# Altium footprint library IMR_LIB_PCB.PcbLib: 119 footprints (part 5 of 8)
Each footprint in its own frame and in the unit in brackets; x right, y up, seen from the top. Pads: shape width x height; smd on the part's side, far side on the other; paste and mask are expansions set on the pad; w line width, h text height; cw(c..) or ccw(c..) is an arc to the next point about the centre after c.
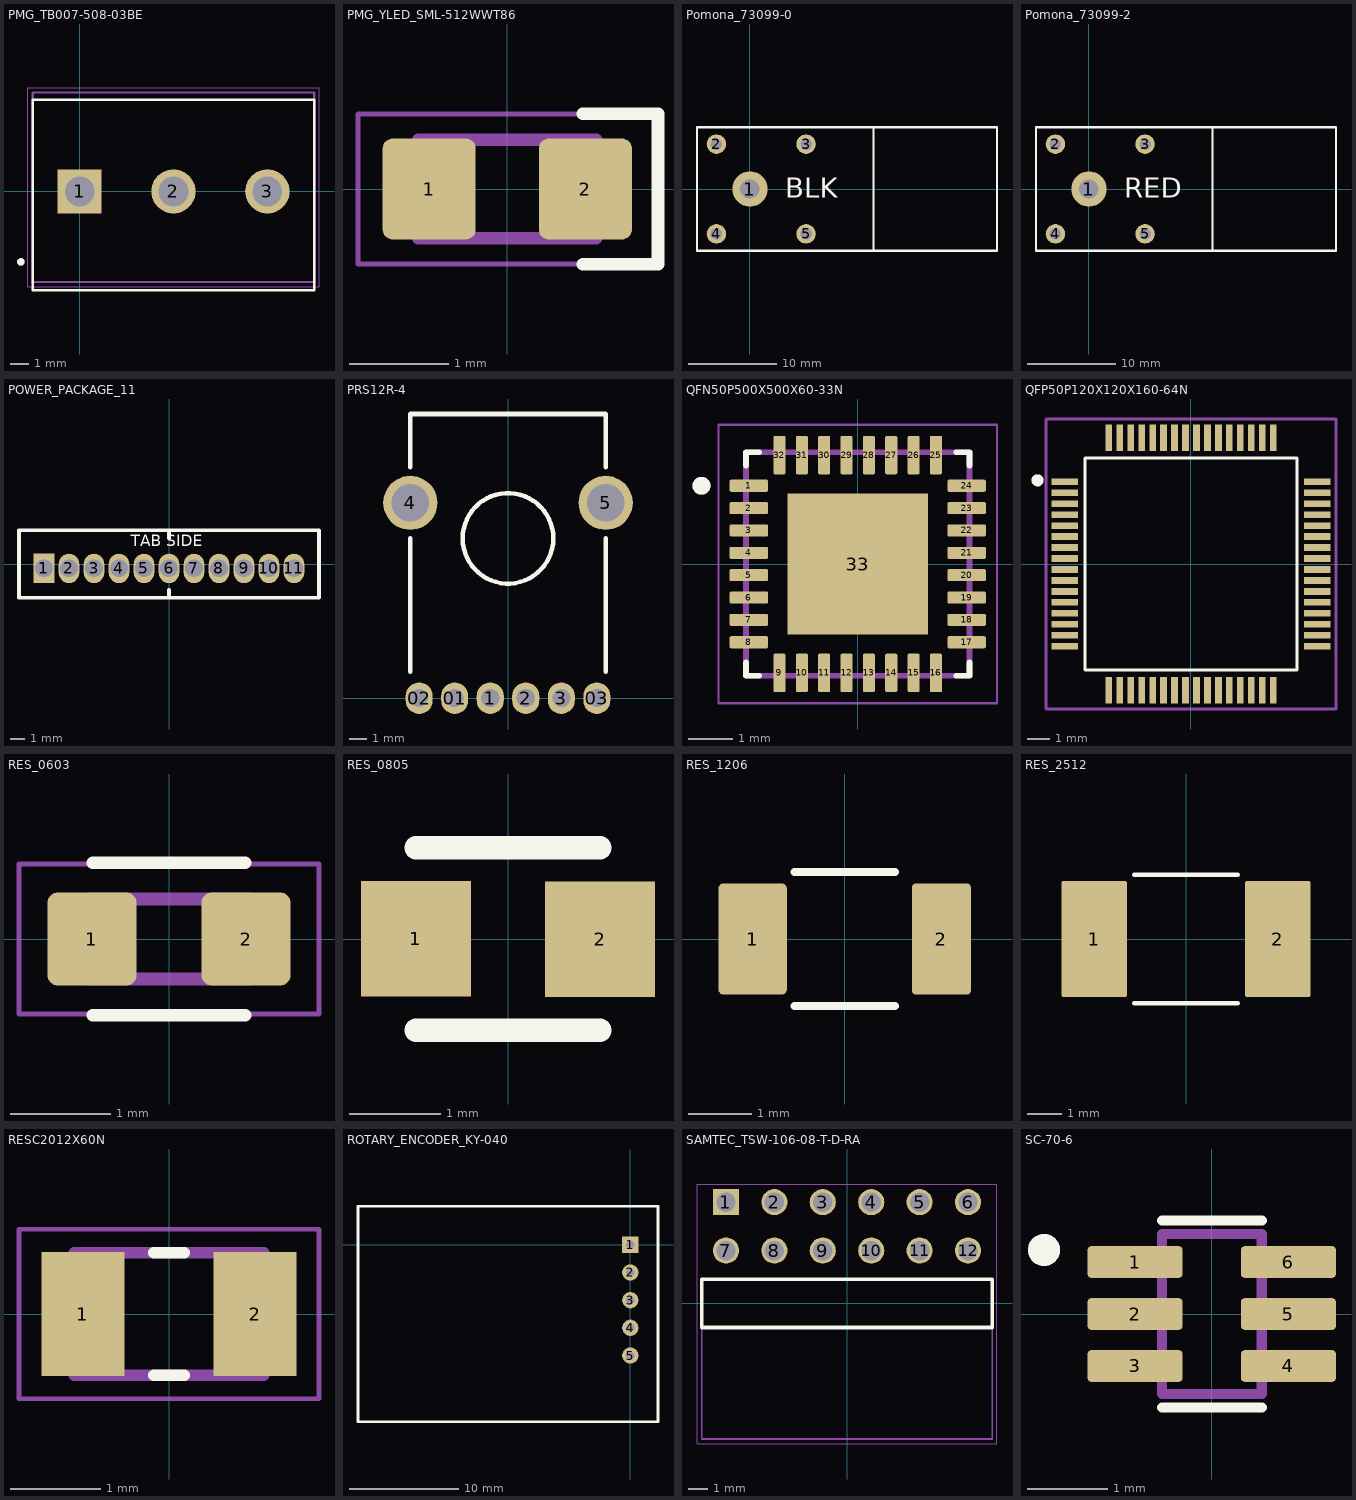
[diagram p4: the footprints below, top view; thin cyan lines are the x and y axes]

## PMG_TB007-508-03BE [mm] "CONN RELAY BLOCK"
height 14
pads (3):
  rect 2.4x2.4 hole 1.6: 1(0,0)
  round 2.4 hole 1.6: 2(5.08,0) 3(10.16,0)
Top Overlay:
  circle w0.2: c-3.175,-3.81 r0.1
  lines w0.127: -2.54,-5.334 12.7,-5.334 12.7,4.953 -2.54,4.953 -2.54,-5.334
3D Top:
  circle w0.2: c-3.175,-3.81 r0.1
  lines w0.127: -2.54,-4.9 12.7,-4.9 12.7,5.35 -2.54,5.35 -2.54,-4.9
Courtyard Top:
  lines w0.05: -2.79,-5.15 -2.79,5.6 12.95,5.6 12.95,-5.15 -2.79,-5.15
3D body: height 2, standoff -15.7, extent -2.611,-5.309 13.229,4.941

## PMG_YLED_SML-512WWT86 [mm] "LED YELLOW DIFFUSED 0603 SMD"
height 0.8
pads (2):
  rrect20% 0.94x1.02 smd: 1(-0.79,0) 2(0.79,0)
Top Overlay:
  lines w0.127: 0.762,-0.762 1.524,-0.762 1.524,0.762 0.762,0.762
3D Top:
  lines w0.127: -0.9,-0.5 -0.9,0.5 0.9,0.5 0.9,-0.5 -0.9,-0.5
Courtyard Top:
  lines w0.05: -1.51,-0.76 -1.51,0.76 1.51,0.76 1.51,-0.76 -1.51,-0.76
3D body: height 0.6, standoff 0, extent -0.8,-0.4 0.8,0.4

## Pomona_73099-0 [mm] "Connector Black 4mm Banana Socket Right Angle"
height 11.5
pads (5):
  round 4 hole 2.2: 1(0,0)
  round 2.2 hole 1.3: 2(-3.8,5.08) 3(6.36,5.08) 4(-3.8,-5.08) 5(6.36,-5.08)
Top Overlay:
  lines w0.254: 14,-7 14,7 ; -6,-7 -6,7 28,7 28,-7 -6,-7
  text "BLK" at 4,-1 h2.29
3D body: height 11.25, standoff -3.65, extent -5.5,-6 27.5,6

## Pomona_73099-2 [mm] "Connector Red 4mm Banana Socket Right Angle"
height 11.5
pads (5):
  round 4 hole 2.2: 1(0,0)
  round 2.2 hole 1.3: 2(-3.8,5.08) 3(6.36,5.08) 4(-3.8,-5.08) 5(6.36,-5.08)
Top Overlay:
  lines w0.254: 14,-7 14,7 ; -6,-7 28,-7 28,7 -6,7 -6,-7
  text "RED" at 4,-1 h2.29
3D body: height 11.25, standoff -3.65, extent -5.5,-6 27.5,6

## POWER_PACKAGE_11 [mm] "TI OPA549S Power Package-11"
height 22
pads (11):
  rect 1.4x2 hole 1.2: 1(-8.5,-0.3)
  oval 1.4x2 hole 1.2: 2(-6.8,-0.3) 3(-5.1,-0.3) 4(-3.4,-0.3) 5(-1.7,-0.3) 6(0,-0.3) 7(1.7,-0.3) 8(3.4,-0.3) 9(5.1,-0.3) 10(6.8,-0.3) 11(8.5,-0.3)
Top Overlay:
  lines w0.254: 0,-2.3 0,-1.75 ; 0,1.75 0,2.3 ; -10.2,-2.3 10.2,-2.3 10.2,2.3 -10.2,2.3 -10.2,-2.3
  text "TAB SIDE" at -2.6,1.2 h0.76
3D body: height 23.63, standoff -2.08, extent -10.008,-2.3 10.007,2.195

## PRS12R-4 [mil] "Dual gang vertical pot"
height 1397.64
pads (8):
  oval 60x70 hole 40: 01(-118.11,0) 1(-39.37,0) 02(-196.85,0) 2(39.37,0) 3(118.11,0) 03(196.85,0)
  round 120 hole 83: 4(-216.54,433.07) 5(216.54,433.07)
Top Overlay:
  circle w10: c0,354.33 r100.37
  lines w10: -216.54,59.06 -216.54,354.33 ; -216.54,511.81 -216.54,629.92 216.54,629.92 216.54,511.81 ; 216.54,59.06 216.54,354.33
3D body: height 1377.95, standoff 393.7, extent -118.1,236.23 118.11,472.44
3D body: height 393.7, standoff 196.85, extent -196.85,59.06 196.85,590.55
3D body: height 196.85, standoff 0, extent -216.54,0 216.54,629.92

## QFN50P500X500X60-33N [mm]
pads (33):
  rrect25% 0.86x0.27 smd: 1(-2.435,1.75) 2(-2.435,1.25) 3(-2.435,0.75) 4(-2.435,0.25) 5(-2.435,-0.25) 6(-2.435,-0.75) 7(-2.435,-1.25) 8(-2.435,-1.75) 17(2.435,-1.75) 18(2.435,-1.25) 19(2.435,-0.75) 20(2.435,-0.25) 21(2.435,0.25) 22(2.435,0.75) 23(2.435,1.25) 24(2.435,1.75)
  rrect25% 0.27x0.86 smd: 9(-1.75,-2.435) 10(-1.25,-2.435) 11(-0.75,-2.435) 12(-0.25,-2.435) 13(0.25,-2.435) 14(0.75,-2.435) 15(1.25,-2.435) 16(1.75,-2.435) 25(1.75,2.435) 26(1.25,2.435) 27(0.75,2.435) 28(0.25,2.435) 29(-0.25,2.435) 30(-0.75,2.435) 31(-1.25,2.435) 32(-1.75,2.435)
  rect 3.15x3.15 smd paste-3: 33(0,0)
Top Overlay:
  circle w0.2: c-3.495,1.75 r0.1
  lines w0.127: -2.5,-2.205 -2.5,-2.5 -2.205,-2.5 ; -2.5,2.205 -2.5,2.5 -2.205,2.5 ; 2.205,-2.5 2.5,-2.5 2.5,-2.205 ; 2.205,2.5 2.5,2.5 2.5,2.205
Top Paste:
  region: 1,-1 -1,-1 -1,1 1,1
3D Top:
  circle w0.2: c-3.495,1.75 r0.1
  lines w0.127: -2.5,-2.5 2.5,-2.5 2.5,2.5 -2.5,2.5 -2.5,-2.5
Courtyard Top:
  lines w0.05: -3.115,-3.115 3.115,-3.115 3.115,3.115 -3.115,3.115 -3.115,-3.115
3D body: height 0.6, standoff 0, extent -2.5,-2.5 2.5,2.5

## QFP50P120X120X160-64N [mm]
pads (64):
  rect 1.2x0.3 smd: 1(-5.75,3.75) 2(-5.75,3.25) 3(-5.75,2.75) 4(-5.75,2.25) 5(-5.75,1.75) 6(-5.75,1.25) 7(-5.75,0.75) 8(-5.75,0.25) 9(-5.75,-0.25) 10(-5.75,-0.75) 11(-5.75,-1.25) 12(-5.75,-1.75) 13(-5.75,-2.25) 14(-5.75,-2.75) 15(-5.75,-3.25) 16(-5.75,-3.75) 33(5.75,-3.75) 34(5.75,-3.25) 35(5.75,-2.75) 36(5.75,-2.25) 37(5.75,-1.75) 38(5.75,-1.25) 39(5.75,-0.75) 40(5.75,-0.25) 41(5.75,0.25) 42(5.75,0.75) 43(5.75,1.25) 44(5.75,1.75) 45(5.75,2.25) 46(5.75,2.75) 47(5.75,3.25) 48(5.75,3.75)
  rect 0.3x1.2 smd: 17(-3.75,-5.75) 18(-3.25,-5.75) 19(-2.75,-5.75) 20(-2.25,-5.75) 21(-1.75,-5.75) 22(-1.25,-5.75) 23(-0.75,-5.75) 24(-0.25,-5.75) 25(0.25,-5.75) 26(0.75,-5.75) 27(1.25,-5.75) 28(1.75,-5.75) 29(2.25,-5.75) 30(2.75,-5.75) 31(3.25,-5.75) 32(3.75,-5.75) 49(3.75,5.75) 50(3.25,5.75) 51(2.75,5.75) 52(2.25,5.75) 53(1.75,5.75) 54(1.25,5.75) 55(0.75,5.75) 56(0.25,5.75) 57(-0.25,5.75) 58(-0.75,5.75) 59(-1.25,5.75) 60(-1.75,5.75) 61(-2.25,5.75) 62(-2.75,5.75) 63(-3.25,5.75) 64(-3.75,5.75)
Top Overlay:
  circle w0.406: c-6.985,3.81 r0.07
  lines w0.127: -4.826,-4.826 4.826,-4.826 4.826,4.826 -4.826,4.826 -4.826,-4.826
Courtyard Top:
  lines w0.127: -6.6,-6.6 6.6,-6.6 6.6,6.6 -6.6,6.6 -6.6,-6.6
3D body: height 1.6, standoff 0, extent -6,-6 6,6

## RES_0603 [mm] "RES 0603 .125W"
height 0.9
pads (2):
  rrect22% 0.89x0.93 smd: 1(-0.77,0) 2(0.77,0)
Top Overlay:
  lines w0.127: -0.762,-0.762 0.762,-0.762 ; -0.762,0.762 0.762,0.762
3D Top:
  circle w0.1: c-1.05,0 r0.05
  lines w0.127: -0.8,-0.4 -0.8,0.4 0.8,0.4 0.8,-0.4 -0.8,-0.4
Courtyard Top:
  lines w0.05: -1.5,-0.75 -1.5,0.75 1.5,0.75 1.5,-0.75 -1.5,-0.75
3D body: height 0.48, standoff -0.03, extent -0.8,-0.43 0.8,0.43

## RES_0805 [mm]
pads (2):
  rect 1.2x1.27 smd: 1(-1.008,0.003) 2(1.008,-0.003)
Top Overlay:
  lines w0.254: -1.008,-1 1.008,-1 ; -1.008,1 1.008,1
3D body: height 0.6, standoff 0, extent -1,-0.625 1,0.625

## RES_1206 [mm] "RESISTOR 1206"
height 0.5
pads (2):
  rrect14% 1.09x1.77 smd: 1(-1.465,0)
  rrect14% 0.94x1.77 smd: 2(1.54,0)
Top Overlay:
  lines w0.127: -0.8,-1.065 0.8,-1.065 ; -0.8,1.065 0.8,1.065
3D body: height 0.55, standoff -0.01, extent -1.55,-0.775 1.55,0.775

## RES_2512 [mm] "RESISTOR 2512"
height 1
pads (2):
  rrect7% 1.9x3.37 smd: 1(-2.66,0) 2(2.66,0)
Top Overlay:
  lines w0.127: -1.5,-1.865 1.5,-1.865 ; -1.5,1.865 1.5,1.865
3D body: height 0.58, standoff 0.02, extent -3.175,-1.6 3.175,1.6

## RESC2012X60N [mm]
pads (2):
  rect 0.92x1.38 smd: 1(-0.955,0) 2(0.955,0)
Top Overlay:
  lines w0.127: -0.17,-0.68 0.17,-0.68 ; -0.17,0.68 0.17,0.68
3D Top:
  lines w0.127: -1.05,-0.68 1.05,-0.68 1.05,0.68 -1.05,0.68 -1.05,-0.68
Courtyard Top:
  lines w0.05: -1.665,-0.94 1.665,-0.94 1.665,0.94 -1.665,0.94 -1.665,-0.94
3D body: height 0.6, standoff 0, extent -1,-0.625 1,0.625

## ROTARY_ENCODER_KY-040 [mm]
pads (5):
  rect 1.5x1.5 hole 0.75: 1(0,0)
  round 1.5 hole 0.75: 2(0,-2.54) 3(0,-5.08) 4(0,-7.62) 5(0,-10.16)
Top Overlay:
  lines w0.254: -25,-16.24 -25,3.54 2.54,3.54 2.54,-16.24 -25,-16.24

## SAMTEC_TSW-106-08-T-D-RA [mm]
pads (12):
  rect 1.37x1.37 hole 1.02: 1(-6.35,5.31)
  round 1.37 hole 1.02: 2(-3.81,5.31) 3(-1.27,5.31) 4(1.27,5.31) 5(3.81,5.31) 6(6.35,5.31) 7(-6.35,2.77) 8(-3.81,2.77) 9(-1.27,2.77) 10(1.27,2.77) 11(3.81,2.77) 12(6.35,2.77)
Top Overlay:
  lines w0.2: -7.62,-1.27 -7.62,1.27 7.62,1.27 7.62,-1.27 -7.62,-1.27
3D Top:
  lines w0.1: -7.62,-1.27 -7.62,1.27 7.62,1.27 7.62,-1.27 ; -7.62,-1.27 7.62,-1.27 ; -7.62,-1.27 -7.62,-7.11 7.62,-7.11 7.62,-1.27
Courtyard Top:
  lines w0.05: -7.87,-7.36 -7.87,6.245 7.87,6.245 7.87,-7.36 -7.87,-7.36
3D body: height 5.59, standoff -2.26, extent -7.62,-7.11 7.62,5.654

## SC-70-6 [mm] "6-TSSOP, SC-88, SOT-363"
height 2.5
pads (6):
  rrect25% 1.19x0.4 smd: 1(-0.96,0.65) 2(-0.96,0) 3(-0.96,-0.65) 4(0.96,-0.65) 5(0.96,0) 6(0.96,0.65)
Top Overlay:
  circle w0.2: c-2.1,0.802 r0.1
  lines w0.127: -0.625,-1.17 0.625,-1.17 ; -0.625,1.17 0.625,1.17
3D Top:
  circle w0.2: c-2.1,0.802 r0.1
  lines w0.127: -0.625,-1 0.625,-1 0.625,1 -0.625,1 -0.625,-1
3D body: height 1.1, standoff 0, extent -1.05,-1 1.05,1